# EAGLE library part 6PIN_CON_AMP (library OpenMotics)
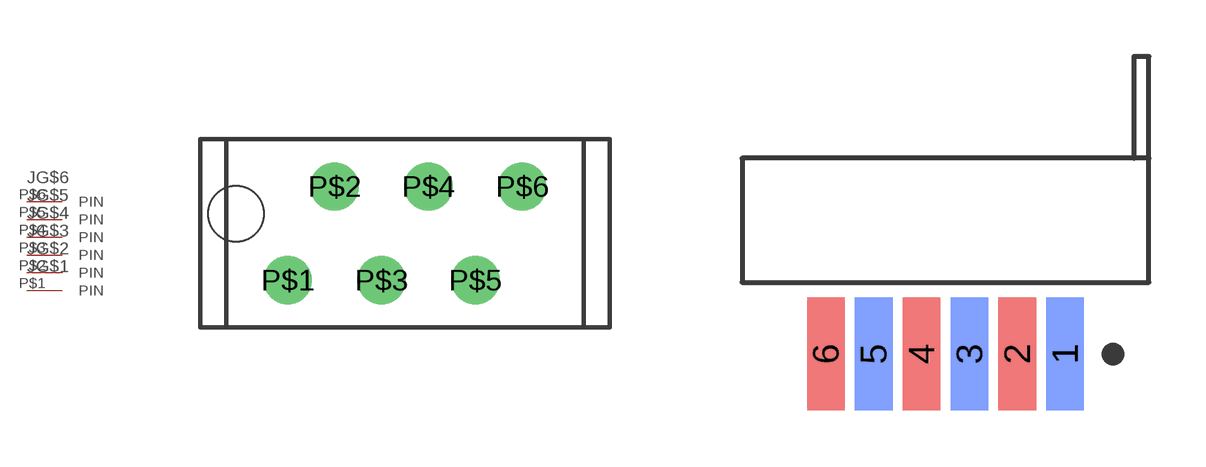
[diagram p4: symbol with the pads of 6PIN_CON_AMP; footprints 6PIN_CON_AMP, 6PIN_CON_AMP_90]

Designator prefix J; gates G$1=PIN G$2=PIN G$3=PIN G$4=PIN G$5=PIN G$6=PIN

## 6PIN_CON_AMP (VERSION: OMHXX_X_X)  [6PIN_CON_AMP]
P$1  G$1:PIN
P$2  G$2:PIN
P$3  G$3:PIN
P$4  G$4:PIN
P$5  G$5:PIN
P$6  G$6:PIN

## 6PIN_CON_AMPSIDE  [6PIN_CON_AMP_90]
1  G$1:PIN
2  G$2:PIN
3  G$3:PIN
4  G$4:PIN
5  G$5:PIN
6  G$6:PIN

## 6PIN_CON_AMPSMD  [6PIN_CON_AMP_SMD]
P$9  G$1:PIN
P$10  G$2:PIN
P$11  G$3:PIN
P$12  G$4:PIN
P$13  G$5:PIN
P$14  G$6:PIN

## Footprint 6PIN_CON_AMP (pad centres in mm)
drill 0.8 round: P$1 0,-1.27; P$2 1.27,1.27; P$3 2.54,-1.27; P$4 3.81,1.27; P$5 5.08,-1.27; P$6 6.35,1.27
hole 1.5 at -1.4,0.53

## Footprint 6PIN_CON_AMP_90 (pad centres in mm)
smd 1 x 3 bottom: 1 3.175,-1.905; 3 0.635,-1.905; 5 -1.905,-1.905
smd 1 x 3: 2 1.905,-1.905; 4 -0.635,-1.905; 6 -3.175,-1.905

## Footprint 6PIN_CON_AMP_SMD (pad centres in mm)
smd 1.5 x 3: P$9 0,2.25; P$10 1.27,-2.25; P$11 2.54,2.25; P$12 3.81,-2.25; P$13 5.08,2.25; P$14 6.35,-2.25